# Altium schematic symbol library FETs.SchLib: 8 symbols
Pins are listed as number, name and electrical type; pins without a type are passive.

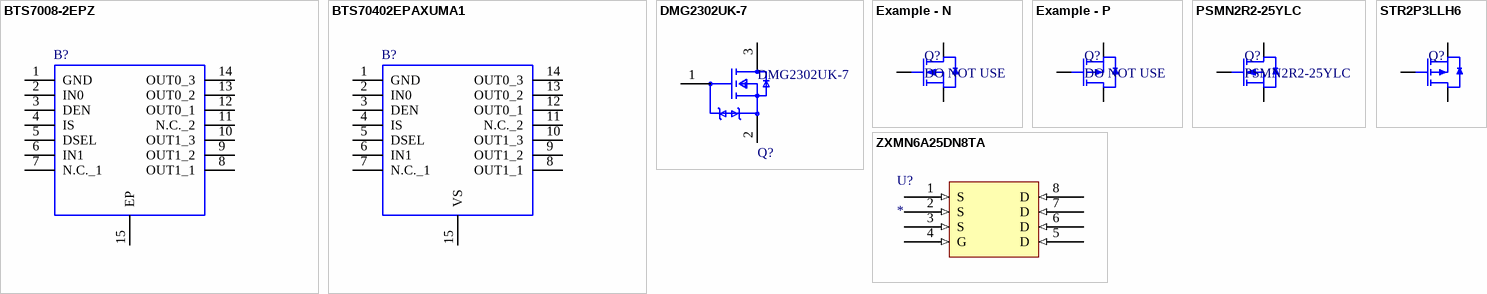
[diagram p0: symbols BTS7008-2EPZ to ZXMN6A25DN8TA]

## BTS7008-2EPZ
designator B?  Supplier Part Number 1: 726-BTS70082EPZXUMA1
PROFET +2 12V Smart High-Side Power Switch; Manufacturer_Name: Infineon; Geometry.Height: 1.15mm; Manufacturer_Part_Number: BTS7008-2EPZ; Mouser Part Number: *; Mouser Price/Stock: *; Arrow Part Number: *; Arrow Price/Stock: *; Mouser Testing Part Number: *; Mouser Testing Price/Stock: *; Datasheet Link: https://4donline.ihs.com/images/VipMasterIC/IC/INFN/INFN-S-A0012431809/INFN-S-A0012432886-1.pdf?hkey=EF798316E3902B6ED9A73243A3159BB0; Supplier 1: Mouser
footprint SOP65P600X115-15N
pins: 1 GND, 2 IN0, 3 DEN, 4 IS, 5 DSEL, 6 IN1, 7 N.C._1, 8 OUT1_1, 9 OUT1_2, 10 OUT1_3, 11 N.C._2, 12 OUT0_1, 13 OUT0_2, 14 OUT0_3, 15 EP

## BTS70402EPAXUMA1
designator B?
INFINEON - BTS70402EPAXUMA1 - POWER LOAD SW, AEC-Q100, 28V, TSSOP-14; Geometry.Height: 1.15mm; Manufacturer_Name: Infineon; Manufacturer_Part_Number: BTS70402EPAXUMA1; Mouser Part Number: 726-BTS70402EPAXUMA1; Mouser Price/Stock: https://www.mouser.co.uk/ProductDetail/Infineon-Technologies/BTS70402EPAXUMA1/?qs=xhbEVWpZdWcRox4UOnpf1w%3D%3D; Arrow Part Number: BTS70402EPAXUMA1; Arrow Price/Stock: https://www.arrow.com/en/products/bts70402epaxuma1/infineon-technologies-ag?region=nac; Mouser Testing Part Number: *; Mouser Testing Price/Stock: *; Datasheet Link: https://componentsearchengine.com/Datasheets/1/BTS70402EPAXUMA1.pdf; Supplier 1: Arrow Electronics; Supplier Part Number 1: BTS70402EPAXUMA1
footprint SOP65P600X115-15N
pins: 1 GND, 2 IN0, 3 DEN, 4 IS, 5 DSEL, 6 IN1, 7 N.C._1, 8 OUT1_1, 9 OUT1_2, 10 OUT1_3, 11 N.C._2, 12 OUT0_1, 13 OUT0_2, 14 OUT0_3, 15 VS

## DMG2302UK-7
designator Q?
MOSFET N-CH 20V 2.8A SOT23; Manufacturer: Diodes Inc.; Reverse Recovery Time: 5.3ns; Gate Charge At Vgs: 2.8nC @ 10V; Turn On Delay Time: 0.6ns; Pulse Drain Current: 12A; Max Forward Diode Voltage: 1.2V; Reverse Recovery Charge: 0.5nC; Automotive Grade: Grade 0; Threshold Vgs Min: 0.3V; Number Of N Channels: 1; Standoff Height: 0.013mm; Typ Forward Diode Voltage: 0.7V; Drain To Source Resistance: 61mΩ; Rthja Max: 192°C/W; Max Junction Temp: +150°C; Input Capacitace At Vds: 130pF @ 10V; Threshold Vgs Max: 1V; Turn Off Delay Time: 4.2ns; Depletion Mode: False; Gate To Source Voltage: 12V; Power Dissipation: 0.66W; Device Class L1: Discrete Semiconductors; Footprint Url: https://www.diodes.com/assets/Package-Files/SOT23.pdf; Lead Free: Yes; Manufacturer Part Number: DMG2302UK-7; Temperature Range High: +150°C; Drain To Source Voltage: 20V; Category: Trans; Digikey Description: MOSFET N-CH 20V 2.8A SOT23; RoHS: TRUE; Device Class L2: Transistors; Height: 1.1mm; Automotive: Yes; Package: SOT23; Drain To Source Breakdown Voltage: 20V; Continuous Drain Current: 2.8A; ComponentLink2Description: Datasheet; Device Class L3: MOSFETs; Octopart: https://octopart.com/dmg2302uk-7-diodes+inc.-73850182; Temperature Range Low: -55°C; Temperature: -55°C to +150°C; Number Of Channels: 1; ComponentLink2URL: https://www.diodes.com/assets/Datasheets/DMG2302UK.pdf
footprint SOT23-3 (SOT23, 3-Leads, Body 2.92x2.37mm, Pitch 0.95mm, IPC Medium Density, NUP2105L)
pins: 1 G, 2 S, 3 D

## Example - N
designator Q?, comment DO NOT USE
Type: *; VdsMax: *; Num_Circuits: *; Current: *; RdsOn: *; Vt: *; VgsMax: *; Package: *
pins: 1 D, 2 G, 3 S

## Example - P
designator Q?, comment DO NOT USE
Type: *; VdsMax: *; Num_Circuits: *; Current: *; RdsOn: *; Vt: *; VgsMax: *; Package: *
pins: 1 S, 2 G, 3 D

## PSMN2R2-25YLC
designator Q?
N-channel 25 V 2.4 mΩ logic level MOSFET in LFPAK using NextPower; Type: N; VdsMax: 25; IdsMax: 100; RdsOnMax: 3.15m; Vt: 1.54; VgsMax: 20; ComponentLink1Description: Datasheet; ComponentLink1URL: https://assets.nexperia.com/documents/data-sheet/PSMN2R2-25YLC.pdf; ComponentLink2Description: Digikey; ComponentLink2URL: https://www.digikey.com/product-detail/en/nexperia-usa-inc/PSMN2R2-25YLC115/1727-5299-1-ND/2674299; Name: PSMN2R2-25YLC
footprint LFPAK-SO8 (TO, 5-Pads, Body 5.15x5.86mm (max), IPC Low Density)
pins: 1 S, 2 S, 3 S, 4 G, 5 D
1 alternate drawing of the same symbol

## STR2P3LLH6
designator Q?, comment MOSFET P-CH 30V 2A SOT-23  (value not drawn)
P-Channel 2A (Ta) 350mW (Tc) Surface Mount SOT-23; Type: P Channel; VdsMax: 30; Num_Circuits: 1; Current: 2; RdsOn: 56; Vt: 10; VgsMax: 20; Package: SOT-23; ComponentLink1Description: Digikey; ComponentLink1URL: https://www.digikey.com/en/products/detail/stmicroelectronics/STR2P3LLH6/5244876; ComponentLink2Description: Datasheet; ComponentLink2URL: https://www.st.com/content/ccc/resource/technical/document/datasheet/96/4a/55/9d/3c/16/47/d6/DM00084050.pdf/files/DM00084050.pdf/jcr:content/translations/en.DM00084050.pdf
footprint SOT23-3 (SOT23, 3-Leads, Body 2.92x2.37mm, Pitch 0.95mm, IPC Medium Density, NUP2105L)
pins: 1 G, 2 S, 3 D

## ZXMN6A25DN8TA
designator U?
footprint SOIC127P600X150-8N
pins: 1 S (in), 2 S (in), 3 S (in), 4 G (in), 5 D (in), 6 D (in), 7 D (in), 8 D (in)